# EAGLE library part SOCKET1X10 (library kiks-connector)
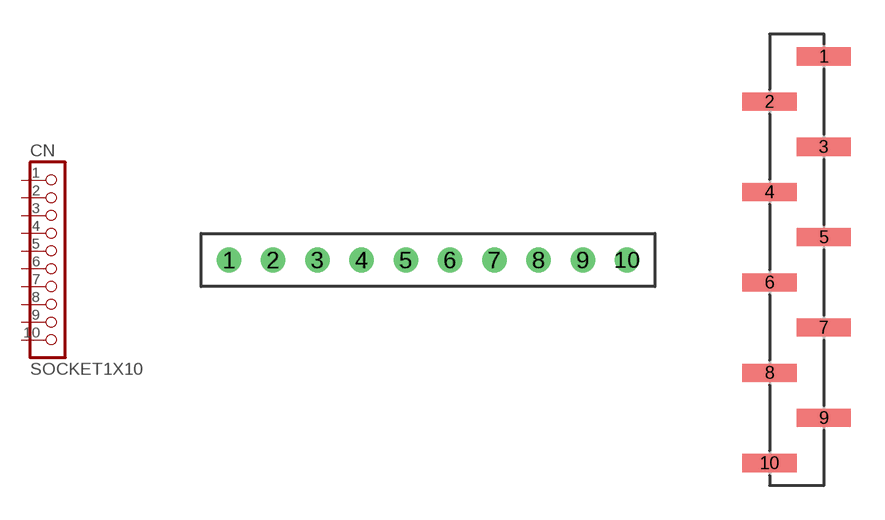
[diagram p6: symbol with the pads of SOCKET1X10-TH2.0; footprints SOCKET1X10-TH2.0, SOCKET1X10-SMT2.0]

Designator prefix CN

## SOCKET1X10-TH2.0  [SOCKET1X10-TH2.0]
1  1  pas
2  2  pas
3  3  pas
4  4  pas
5  5  pas
6  6  pas
7  7  pas
8  8  pas
9  9  pas
10  10  pas

## SOCKET1X10-SMT2.0  [SOCKET1X10-SMT2.0]
Pads as for SOCKET1X10-TH2.0

## Footprint SOCKET1X10-TH2.0 (pad centres in mm)
drill 0.6 pad 1.1: 1 -9,0; 2 -7,0; 3 -5,0; 4 -3,0; 5 -1,0; 6 1,0; 7 3,0; 8 5,0; 9 7,0; 10 9,0

## Footprint SOCKET1X10-SMT2.0 (pad centres in mm)
smd 2.4 x 0.8: 1 1.2,9; 2 -1.2,7; 3 1.2,5; 4 -1.2,3; 5 1.2,1; 6 -1.2,-1; 7 1.2,-3; 8 -1.2,-5; 9 1.2,-7; 10 -1.2,-9